# Altium schematic symbol library TPS54332DDA.SchLib: 1 symbol
Pins are listed as number, name and electrical type; pins without a type are passive.

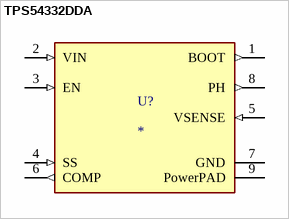
[diagram p0: symbol TPS54332DDA]

## TPS54332DDA
designator U?
IC REG BUCK ADJ 3.5A 8SOPWR
pins: 1 BOOT (out), 2 VIN (in), 3 EN (in), 4 SS (in), 5 VSENSE (in), 6 COMP (out), 7 GND (power), 8 PH (out), 9 PowerPAD (power)